# Altium footprint library sot.PcbLib: 9 footprints
Each footprint in its own frame and in the unit in brackets; x right, y up, seen from the top. Pads: shape width x height; smd on the part's side, far side on the other; paste and mask are expansions set on the pad; w line width, h text height; cw(c..) or ccw(c..) is an arc to the next point about the centre after c.
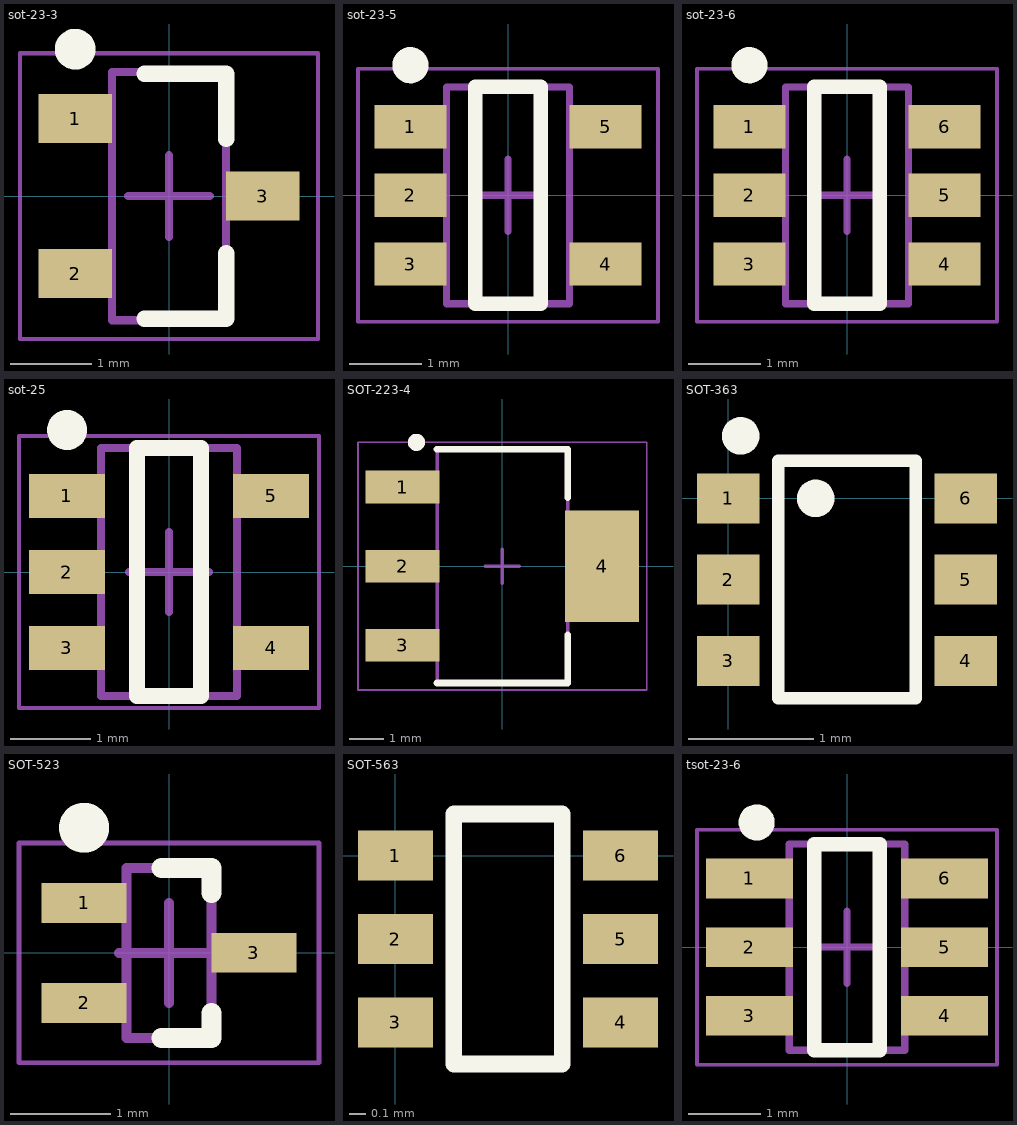
[diagram p0: the footprints below, top view; thin cyan lines are the x and y axes]

## sot-23-3 [mm] "SOT-23-3 package"
height 1.1
pads (3):
  rect 0.9x0.6 smd: 1(-1.15,0.95) 2(-1.15,-0.95) 3(1.15,0)
Top Overlay:
  circle w0.25: c-1.15,1.8 r0.125
  lines w0.2: -0.3,-1.5 0.7,-1.5 0.7,-0.7 ; -0.3,1.5 0.7,1.5 0.7,0.7
Mechanical 13:
  lines w0.1: -0.7,-1.52 0.7,-1.52 0.7,1.52 -0.7,1.52 -0.7,-1.52
Mechanical 15:
  lines w0.05: -1.825,-1.75 1.825,-1.75 1.825,1.75 -1.825,1.75 -1.825,-1.75
  lines w0.1: -0.5,0 0.5,0 ; 0,-0.5 0,0.5
3D body "SOT23-3.stp": height 1.2, standoff 0.02, extent -1.418,-1.5 1.418,1.5

## sot-23-5 [mm] "SOT23, 5-Leads, Body 2.90x2.80mm, Pitch 0.95mm, IPC Medium Density"
height 1.1
pads (5):
  rect 1x0.6 smd: 1(-1.35,0.95) 2(-1.35,0) 3(-1.35,-0.95) 4(1.35,-0.95) 5(1.35,0.95)
Top Overlay:
  circle w0.25: c-1.35,1.8 r0.125
  lines w0.2: -0.45,-1.5 -0.45,1.5 0.45,1.5 0.45,-1.5 -0.45,-1.5
Mechanical 13:
  lines w0.1: -0.85,-1.5 0.85,-1.5 0.85,1.5 -0.85,1.5 -0.85,-1.5
Mechanical 15:
  lines w0.05: -2.075,-1.75 2.075,-1.75 2.075,1.75 -2.075,1.75 -2.075,-1.75
  lines w0.1: -0.5,0 0.5,0 ; 0,-0.5 0,0.5
3D body "SOT23-5.stp": height 1.2, standoff 0.02, extent -1.418,-1.5 1.418,1.5

## sot-23-6 [mm] "SOT23, 6-Leads, Body 2.90x2.80mm, Pitch 0.95mm, IPC Medium Density"
height 1.1
pads (6):
  rect 1x0.6 smd: 1(-1.35,0.95) 2(-1.35,0) 3(-1.35,-0.95) 4(1.35,-0.95) 5(1.35,0) 6(1.35,0.95)
Top Overlay:
  circle w0.25: c-1.35,1.8 r0.125
  lines w0.2: -0.45,-1.5 0.45,-1.5 0.45,1.5 -0.45,1.5 -0.45,-1.5
Mechanical 13:
  lines w0.1: -0.85,-1.5 -0.85,1.5 0.85,1.5 0.85,-1.5 -0.85,-1.5
Mechanical 15:
  lines w0.05: -2.075,-1.75 -2.075,1.75 2.075,1.75 2.075,-1.75 -2.075,-1.75
  lines w0.1: -0.5,0 0.5,0 ; 0,-0.5 0,0.5
3D body "SOT23-6.stp": height 1.2, standoff 0.02, extent -1.418,-1.5 1.418,1.5

## sot-25 [mm] "SOT23 Package"
height 1.4
pads (5):
  rect 0.95x0.55 smd: 1(-1.275,0.95) 2(-1.275,0) 3(-1.275,-0.95) 4(1.275,-0.95) 5(1.275,0.95)
Top Overlay:
  circle w0.25: c-1.275,1.775 r0.125
  lines w0.2: -0.4,-1.55 0.4,-1.55 0.4,1.55 -0.4,1.55 -0.4,-1.55
Mechanical 13:
  lines w0.1: -0.85,-1.55 -0.85,1.55 0.85,1.55 0.85,-1.55 -0.85,-1.55
Mechanical 15:
  lines w0.05: -1.875,-1.7 -1.875,1.7 1.875,1.7 1.875,-1.7 -1.875,-1.7
  lines w0.1: -0.5,0 0.5,0 ; 0,-0.5 0,0.5
3D body: height 1.4, standoff 0, extent -0.85,-1.55 0.85,1.55

## SOT-223-4 [mm]
pads (4):
  rect 2.15x0.95 smd: 1(-2.9,2.3) 2(-2.9,0) 3(-2.9,-2.3)
  rect 2.15x3.25 smd: 4(2.9,0)
Top Overlay:
  circle w0.25: c-2.5,3.6 r0.125
  lines w0.2: -1.9,-3.4 0.5,-3.4 1.9,-3.4 1.9,-2 ; -1.9,3.4 1.9,3.4 ; 1.9,2 1.9,3.4 ; 1.9,3.4 1.9,3.4
Mechanical 13:
  lines w0.1: -1.9,-3.4 -1.9,3.4 1.9,3.4 1.9,-3.4 -1.9,-3.4
Mechanical 15:
  lines w0.05: -4.2,-3.6 -4.2,3.6 4.2,3.6 4.2,-3.6 -4.2,-3.6
  lines w0.1: -0.503,-0.005 0.497,-0.005 ; -0.003,-0.505 -0.003,0.495
3D body: height 1.1, standoff 0.1, extent -1.9,-3.4 1.9,3.4

## SOT-363 [mm]
pads (6):
  rect 0.5x0.4 smd mask+0.05: 1(0,0) 2(0,-0.65) 3(0,-1.3) 4(1.9,-1.3) 5(1.9,-0.65) 6(1.9,0)
Top Overlay:
  circle w0.2: c0.1,0.5 r0.05
  circle w0.2: c0.7,0 r0.05
  lines w0.1: 0.4,-1.6 0.4,0.3 1.5,0.3 1.5,-1.6 0.4,-1.6
3D body: height 0.95, standoff 0, extent 0.325,-1.65 1.575,0.35

## SOT-523 [mm] "SOT23, 3-Leads, Body 1.60x1.60mm, Pitch 0.50mm, IPC Medium Density"
height 0.99
pads (3):
  rect 0.85x0.4 smd: 1(-0.85,0.5) 2(-0.85,-0.5) 3(0.85,0)
Top Overlay:
  circle w0.25: c-0.85,1.25 r0.125
  lines w0.2: -0.075,-0.85 0.425,-0.85 0.425,-0.6 ; -0.075,0.85 0.425,0.85 0.425,0.6
Mechanical 13:
  lines w0.1: -0.425,-0.85 -0.425,0.85 0.425,0.85 0.425,-0.85 -0.425,-0.85
Mechanical 15:
  lines w0.05: -1.5,-1.1 -1.5,1.1 1.5,1.1 1.5,-1.1 -1.5,-1.1
  lines w0.1: -0.5,0 0.5,0 ; 0,-0.5 0,0.5
3D body: height 0.99, standoff 0.05, extent -0.425,-0.85 0.425,0.85

## SOT-563 [mm]
pads (6):
  rect 0.45x0.3 smd mask+0.05: 1(0,0) 2(0,-0.5) 3(0,-1) 4(1.35,-1) 5(1.35,-0.5) 6(1.35,0)
Top Overlay:
  lines w0.1: 0.35,-1.25 0.35,0.25 1,0.25 1,-1.25 0.35,-1.25

## tsot-23-6 [mm] "TSOT-23, 6-Leads, Body 2.90x1.6mm, Pitch 0.95mm"
height 1.1
pads (6):
  rect 1.2x0.55 smd mask+0.075: 1(-1.35,0.95) 2(-1.35,0) 3(-1.35,-0.95) 4(1.35,-0.95) 5(1.35,0) 6(1.35,0.95)
Top Overlay:
  circle w0.25: c-1.25,1.725 r0.125
  lines w0.2: -0.45,-1.425 0.45,-1.425 0.45,1.425 -0.45,1.425 -0.45,-1.425
Mechanical 13:
  lines w0.1: -0.8,-1.425 -0.8,1.425 0.8,1.425 0.8,-1.425 -0.8,-1.425
Mechanical 15:
  lines w0.05: -2.075,-1.625 -2.075,1.625 2.075,1.625 2.075,-1.625 -2.075,-1.625
  lines w0.1: -0.5,0 0.5,0 ; 0,-0.5 0,0.5
3D body "TSOT-23-6.SLDPRT": height 0.98, standoff -0.02, extent -1.4,-1.425 1.4,1.425